# EAGLE library part DF13_15 (library Lysenko_Eagle_Lib)
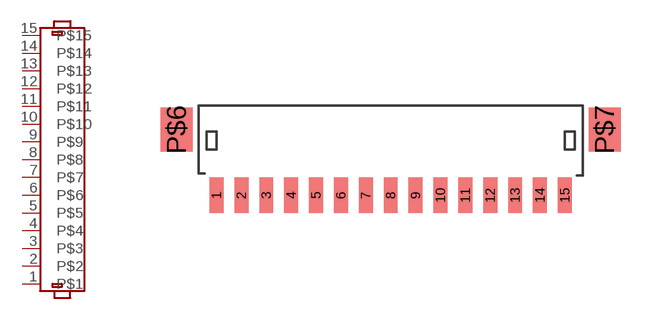
[diagram p27: symbol with the pads of DF13_15; footprint DF13_15]

Designator prefix -

## DF13_15  [DF13_15]
1  P$1
2  P$2
3  P$3
4  P$4
5  P$5
6  P$6
7  P$7
8  P$8
9  P$9
10  P$10
11  P$11
12  P$12
13  P$13
14  P$14
15  P$15

## Footprint DF13_15 (pad centres in mm)
smd 0.7 x 1.8: 1 0,0; 2 1.25,0; 3 2.5,0; 4 3.75,0; 5 5,0; 6 6.25,0; 7 7.5,0; 8 8.75,0; 9 10,0; 10 11.25,0; 11 12.5,0; 12 13.75,0; 13 15,0; 14 16.25,0; 15 17.5,0
smd 1.6 x 2.2: P$6 -2,3.3; P$7 19.5,3.3